# Altium schematic symbol library WE-UNIT.SchLib: 12 symbols
Pins are listed as number, name and electrical type; pins without a type are passive.

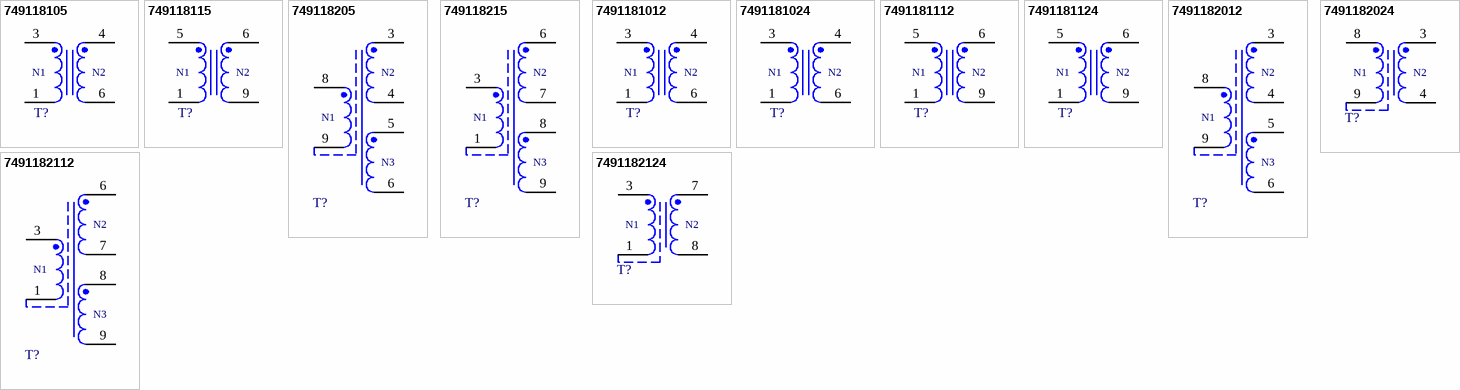
[diagram p0: symbols 749118105 to 7491182124]

## 749118105
designator T?, comment 85-265Vin, 5Vout  (value not drawn)
WE-UNIT Off-Line Transformer, THT, E13/7/4_Vertical, 85-265Vin, 5Vout, 3W; Manufacturer Part Number: 749118105; Manufacturer: Wurth Elektronik; Inductance: 2.8mH; Input Voltage: 85-265VAC; Insulation Test Voltage: 4000VAC; Leakage Inductance: 280uH; Output Current: 0.6A; Output Voltage: 5V; Saturation Current: 0.2A; Switching Frequency: 132kHz; Turns Ratio: 18.9:1; Category: Transformers For AC-DC Converter; Match Code: WE-UNIT; ComponentLink1Description: Website Link; ComponentLink1URL: https://www.we-online.com/redexpert/article/749118105?ad; ComponentLink2Description: Datasheet Link; ComponentLink2URL: https://www.we-online.com/redexpert/spec/749118105?ad; Mount: Through Hole; Operating Temperature Max: 125°C; Operating Temperature Min: -40°C; Packaging: Tray; Case/Size Code: E13/7/4_Vertical; Length: 15mm; Width: 11mm; Height: 16.8mm; Output Power: 3W
footprint WE-UNIT_E13/7/4_Vertical
simulation model 749118105
pins: 1, 3, 4, 6
text: N1; N2

## 749118115
designator T?, comment 85-265Vin, 5Vout  (value not drawn)
WE-UNIT Off-Line Transformer, THT, E13/7/4_Horizontal, 85-265Vin, 5Vout, 3W; Manufacturer Part Number: 749118115; Manufacturer: Wurth Elektronik; Inductance: 2.8mH; Input Voltage: 85-265VAC; Insulation Test Voltage: 4000VAC; Leakage Inductance: 180uH; Output Current: 0.6A; Output Voltage: 5V; Saturation Current: 0.2A; Switching Frequency: 132kHz; Turns Ratio: 18.9:1; Category: Transformers For AC-DC Converter; Match Code: WE-UNIT; ComponentLink1Description: Website Link; ComponentLink1URL: https://www.we-online.com/redexpert/article/749118115?ad; ComponentLink2Description: Datasheet Link; ComponentLink2URL: https://www.we-online.com/redexpert/spec/749118115?ad; Mount: Through Hole; Operating Temperature Max: 125°C; Operating Temperature Min: -40°C; Packaging: Tray; Case/Size Code: E13/7/4_Horizontal; Length: 21.5mm; Width: 15mm; Height: 12mm; Output Power: 3W
footprint WE-UNIT_E13/7/4_Horizontal
simulation model 749118115
pins: 1, 5, 6, 9
text: N1; N2

## 749118205
designator T?, comment 85-265Vin, 5/5Vout  (value not drawn)
WE-UNIT Off-Line Transformer, THT, E16/7/4, 85-265Vin, 5/5Vout, 9W; Manufacturer Part Number: 749118205; Manufacturer: Wurth Elektronik; Inductance: 0.9mH; Input Voltage: 85-265VAC; Insulation Test Voltage: 4000VAC; Leakage Inductance: 175uH; Output Current: 0.9/0.9A; Output Voltage: 5/5V; Saturation Current: 0.85A; Switching Frequency: 132kHz; Turns Ratio: 19:1:1; Category: Transformers For AC-DC Converter; Match Code: WE-UNIT; ComponentLink1Description: Website Link; ComponentLink1URL: https://www.we-online.com/redexpert/article/749118205?ad; ComponentLink2Description: Datasheet Link; ComponentLink2URL: https://www.we-online.com/redexpert/spec/749118205?ad; Mount: Through Hole; Operating Temperature Max: 125°C; Operating Temperature Min: -40°C; Packaging: Tray; Case/Size Code: E16/7/4; Length: 18mm; Width: 16.5mm; Height: 18mm; Output Power: 9W
footprint WE-UNIT_E16/7/4
simulation model 749118205
pins: 3, 4, 5, 6, 8, 9
text: N2; N1; N3

## 749118215
designator T?, comment 85-265Vin, 5/5Vout  (value not drawn)
WE-UNIT Off-Line Transformer, THT, E16/8/5, 85-265Vin, 5/5Vout, 10W; Manufacturer Part Number: 749118215; Manufacturer: Wurth Elektronik; Inductance: 0.9mH; Input Voltage: 85-265VAC; Insulation Test Voltage: 4000VAC; Leakage Inductance: 120uH; Output Current: 1/1A; Output Voltage: 5/5V; Saturation Current: 0.85A; Switching Frequency: 132kHz; Turns Ratio: 19:1:1; Category: Transformers For AC-DC Converter; Match Code: WE-UNIT; ComponentLink1Description: Website Link; ComponentLink1URL: https://www.we-online.com/redexpert/article/749118215?ad; ComponentLink2Description: Datasheet Link; ComponentLink2URL: https://www.we-online.com/redexpert/spec/749118215?ad; Mount: Through Hole; Operating Temperature Max: 125°C; Operating Temperature Min: -40°C; Packaging: Tray; Case/Size Code: E16/8/5; Length: 24.38mm; Width: 20.32mm; Height: 16mm; Output Power: 10W
footprint WE-UNIT_E16/8/5
simulation model 749118215
pins: 1, 3, 6, 7, 8, 9
text: N2; N1; N3

## 7491181012
designator T?, comment 85-265Vin, 12Vout  (value not drawn)
WE-UNIT Off-Line Transformer, THT, E13/7/4_Vertical, 85-265Vin, 12Vout, 3W; Manufacturer Part Number: 7491181012; Manufacturer: Wurth Elektronik; Inductance: 2.8mH; Input Voltage: 85-265VAC; Insulation Test Voltage: 4000VAC; Leakage Inductance: 220uH; Output Current: 0.25A; Output Voltage: 12V; Saturation Current: 0.21A; Switching Frequency: 132kHz; Turns Ratio: 8.1:1; Category: Transformers For AC-DC Converter; Match Code: WE-UNIT; ComponentLink1Description: Website Link; ComponentLink1URL: https://www.we-online.com/redexpert/article/7491181012?ad; ComponentLink2Description: Datasheet Link; ComponentLink2URL: https://www.we-online.com/redexpert/spec/7491181012?ad; Mount: Through Hole; Operating Temperature Max: 125°C; Operating Temperature Min: -40°C; Packaging: Tray; Case/Size Code: E13/7/4_Vertical; Length: 15mm; Width: 11mm; Height: 16.8mm; Output Power: 3W
footprint WE-UNIT_E13/7/4_Vertical
simulation model 7491181012
pins: 1, 3, 4, 6
text: N1; N2

## 7491181024
designator T?, comment 85-265Vin, 24Vout  (value not drawn)
WE-UNIT Off-Line Transformer, THT, E13/7/4_Vertical, 85-265Vin, 24Vout, 3W; Manufacturer Part Number: 7491181024; Manufacturer: Wurth Elektronik; Inductance: 2.8mH; Input Voltage: 85-265VAC; Insulation Test Voltage: 4000VAC; Leakage Inductance: 245uH; Output Current: 0.125A; Output Voltage: 24V; Saturation Current: 0.21A; Switching Frequency: 132kHz; Turns Ratio: 4:1; Category: Transformers For AC-DC Converter; Match Code: WE-UNIT; ComponentLink1Description: Website Link; ComponentLink1URL: https://www.we-online.com/redexpert/article/7491181024?ad; ComponentLink2Description: Datasheet Link; ComponentLink2URL: https://www.we-online.com/redexpert/spec/7491181024?ad; Mount: Through Hole; Operating Temperature Max: 125°C; Operating Temperature Min: -40°C; Packaging: Tray; Case/Size Code: E13/7/4_Vertical; Length: 15mm; Width: 11mm; Height: 16.8mm; Output Power: 3W
footprint WE-UNIT_E13/7/4_Vertical
simulation model 7491181024
pins: 1, 3, 4, 6
text: N1; N2

## 7491181112
designator T?, comment 85-265Vin, 12Vout  (value not drawn)
WE-UNIT Off-Line Transformer, THT, E13/7/4_Horizontal, 85-265Vin, 12Vout, 3W; Manufacturer Part Number: 7491181112; Manufacturer: Wurth Elektronik; Inductance: 2.8mH; Input Voltage: 85-265VAC; Insulation Test Voltage: 4000VAC; Leakage Inductance: 175uH; Output Current: 0.25A; Output Voltage: 12V; Saturation Current: 0.21A; Switching Frequency: 132kHz; Turns Ratio: 8.1:1; Category: Transformers For AC-DC Converter; Match Code: WE-UNIT; ComponentLink1Description: Website Link; ComponentLink1URL: https://www.we-online.com/redexpert/article/7491181112?ad; ComponentLink2Description: Datasheet Link; ComponentLink2URL: https://www.we-online.com/redexpert/spec/7491181112?ad; Mount: Through Hole; Operating Temperature Max: 125°C; Operating Temperature Min: -40°C; Packaging: Tray; Case/Size Code: E13/7/4_Horizontal; Length: 21.5mm; Width: 15mm; Height: 12mm; Output Power: 3W
footprint WE-UNIT_E13/7/4_Horizontal
simulation model 7491181112
pins: 1, 5, 6, 9
text: N1; N2

## 7491181124
designator T?, comment 85-265Vin, 24Vout  (value not drawn)
WE-UNIT Off-Line Transformer, THT, E13/7/4_Horizontal, 85-265Vin, 24Vout, 3W; Manufacturer Part Number: 7491181124; Manufacturer: Wurth Elektronik; Inductance: 2.8mH; Input Voltage: 85-265VAC; Insulation Test Voltage: 4000VAC; Leakage Inductance: 172uH; Output Current: 0.125A; Output Voltage: 24V; Saturation Current: 0.21A; Switching Frequency: 132kHz; Turns Ratio: 4:1; Category: Transformers For AC-DC Converter; Match Code: WE-UNIT; ComponentLink1Description: Website Link; ComponentLink1URL: https://www.we-online.com/redexpert/article/7491181124?ad; ComponentLink2Description: Datasheet Link; ComponentLink2URL: https://www.we-online.com/redexpert/spec/7491181124?ad; Mount: Through Hole; Operating Temperature Max: 125°C; Operating Temperature Min: -40°C; Packaging: Tray; Case/Size Code: E13/7/4_Horizontal; Length: 21.5mm; Width: 15mm; Height: 12mm; Output Power: 3W
footprint WE-UNIT_E13/7/4_Horizontal
simulation model 7491181124
pins: 1, 5, 6, 9
text: N1; N2

## 7491182012
designator T?, comment 85-265Vin, 12/12Vout  (value not drawn)
WE-UNIT Off-Line Transformer, THT, E16/7/4, 85-265Vin, 12/12Vout, 8.4W; Manufacturer Part Number: 7491182012; Manufacturer: Wurth Elektronik; Inductance: 0.9mH; Input Voltage: 85-265VAC; Insulation Test Voltage: 4000VAC; Leakage Inductance: 145uH; Output Current: 0.35/0.35A; Output Voltage: 12/12V; Saturation Current: 0.8A; Switching Frequency: 132kHz; Turns Ratio: 9.5:1:1; Category: Transformers For AC-DC Converter; Match Code: WE-UNIT; ComponentLink1Description: Website Link; ComponentLink1URL: https://www.we-online.com/redexpert/article/7491182012?ad; ComponentLink2Description: Datasheet Link; ComponentLink2URL: https://www.we-online.com/redexpert/spec/7491182012?ad; Mount: Through Hole; Operating Temperature Max: 125°C; Operating Temperature Min: -40°C; Packaging: Tray; Case/Size Code: E16/7/4; Length: 18mm; Width: 16.5mm; Height: 18mm; Output Power: 8.4W
footprint WE-UNIT_E16/7/4
simulation model 7491182012
pins: 3, 4, 5, 6, 8, 9
text: N2; N1; N3

## 7491182024
designator T?, comment 85-265Vin, 24Vout  (value not drawn)
WE-UNIT Off-Line Transformer, THT, E16/7/4, 85-265Vin, 24Vout, 9.6W; Manufacturer Part Number: 7491182024; Manufacturer: Wurth Elektronik; Inductance: 0.9mH; Input Voltage: 85-265VAC; Insulation Test Voltage: 4000VAC; Leakage Inductance: 145uH; Output Current: 0.4A; Output Voltage: 24V; Saturation Current: 0.8A; Switching Frequency: 132kHz; Turns Ratio: 4.4:1; Category: Transformers For AC-DC Converter; Match Code: WE-UNIT; ComponentLink1Description: Website Link; ComponentLink1URL: https://www.we-online.com/redexpert/article/7491182024?ad; ComponentLink2Description: Datasheet Link; ComponentLink2URL: https://www.we-online.com/redexpert/spec/7491182024?ad; Mount: Through Hole; Operating Temperature Max: 125°C; Operating Temperature Min: -40°C; Packaging: Tray; Case/Size Code: E16/7/4; Length: 18mm; Width: 16.5mm; Height: 18mm; Output Power: 9.6W
footprint WE-UNIT_E16/7/4
simulation model 7491182024
pins: 3, 4, 8, 9
text: N1; N2

## 7491182112
designator T?, comment 85-265Vin, 12/12Vout  (value not drawn)
WE-UNIT Off-Line Transformer, THT, E16/8/5, 85-265Vin, 12/12Vout, 8.4W; Manufacturer Part Number: 7491182112; Manufacturer: Wurth Elektronik; Inductance: 0.9mH; Input Voltage: 85-265VAC; Insulation Test Voltage: 4000VAC; Leakage Inductance: 112uH; Output Current: 0.35/0.35A; Output Voltage: 12/12V; Saturation Current: 0.8A; Switching Frequency: 132kHz; Turns Ratio: 9.5:1:1; Category: Transformers For AC-DC Converter; Match Code: WE-UNIT; ComponentLink1Description: Website Link; ComponentLink1URL: https://www.we-online.com/redexpert/article/7491182112?ad; ComponentLink2Description: Datasheet Link; ComponentLink2URL: https://www.we-online.com/redexpert/spec/7491182112?ad; Mount: Through Hole; Operating Temperature Max: 125°C; Operating Temperature Min: -40°C; Packaging: Tray; Case/Size Code: E16/8/5; Length: 24.38mm; Width: 20.32mm; Height: 16mm; Output Power: 8.4W
footprint WE-UNIT_E16/8/5
simulation model 7491182112
pins: 1, 3, 6, 7, 8, 9
text: N2; N1; N3

## 7491182124
designator T?, comment 85-265Vin, 24Vout  (value not drawn)
WE-UNIT Off-Line Transformer, THT, E16/8/5, 85-265Vin, 24Vout, 9.6W; Manufacturer Part Number: 7491182124; Manufacturer: Wurth Elektronik; Inductance: 0.9mH; Input Voltage: 85-265VAC; Insulation Test Voltage: 4000VAC; Leakage Inductance: 100uH; Output Current: 0.4A; Output Voltage: 24V; Saturation Current: 0.8A; Switching Frequency: 132kHz; Turns Ratio: 4.4:1; Category: Transformers For AC-DC Converter; Match Code: WE-UNIT; ComponentLink1Description: Website Link; ComponentLink1URL: https://www.we-online.com/redexpert/article/7491182124?ad; ComponentLink2Description: Datasheet Link; ComponentLink2URL: https://www.we-online.com/redexpert/spec/7491182124?ad; Mount: Through Hole; Operating Temperature Max: 125°C; Operating Temperature Min: -40°C; Packaging: Tray; Case/Size Code: E16/8/5; Length: 24.38mm; Width: 20.32mm; Height: 16mm; Output Power: 9.6W
footprint WE-UNIT_E16/8/5
simulation model 7491182124
pins: 1, 3, 7, 8
text: N1; N2